# Altium integrated library PJ-072C-SMT-TR.IntLib: 1 symbol
Pins are listed as number, name and electrical type; pins without a type are passive.

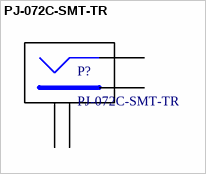
[diagram p0: symbol PJ-072C-SMT-TR]

## PJ-072C-SMT-TR
designator P?
CUI Barrel power connector, 1X3.4mm
footprint PJ-072C-SMT-TR_HOUSING
pins: 1 PWR, 2 GND, 3 SHD, 4 SHD